# EAGLE library part SWITCH_SMD_SLIDE (library milador)
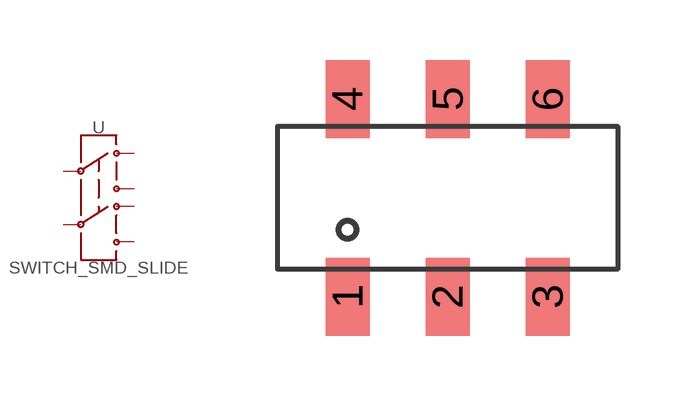
[diagram p5: symbol with the pads of SMD_SLIDE_SWITCH; footprint SMD_SLIDE_SWITCH]

Designator prefix -

## SWITCH_SMD_SLIDE  [SMD_SLIDE_SWITCH]
1  1
2  2
3  3
4  4
5  5
6  6

## Footprint SMD_SLIDE_SWITCH (pad centres in mm)
smd 1.1 x 1.95: 1 -2.5,-2.475; 2 0,-2.475; 3 2.5,-2.475; 4 -2.5,2.475; 5 0,2.475; 6 2.5,2.475